# Altium schematic symbol library SN74LVC2G14DBVT.Schlib: 1 symbol
Pins are listed as number, name and electrical type; pins without a type are passive.

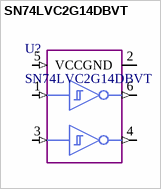
[diagram p0: symbol SN74LVC2G14DBVT]

## SN74LVC2G14DBVT
designator U?
pins: 1 1A (in), 2 GND, 3 2A (in), 4 2Y (out), 5 VCC (in), 6 1Y (out)